# EAGLE library part TPS73001 (library texas)
LDO REGULATOR
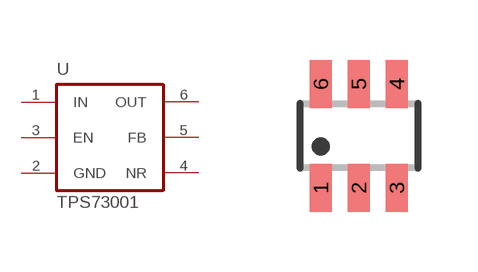
[diagram p56: symbol with the pads of SOT23-6; footprint SOT23-6]

Designator prefix U

## TPS73001  [SOT23-6]
1  IN  in
2  GND  pwr
3  EN  in
4  NR  pas
5  FB  pas
6  OUT  pas

## Footprint SOT23-6 (pad centres in mm)
SOT-23 - DBV 0.95 mm pitch
smd 0.55 x 1.2: 1 -0.95,-1.3; 2 0,-1.3; 3 0.95,-1.3; 4 0.95,1.3; 5 0,1.3; 6 -0.95,1.3